# Altium footprint library 0201_C.PcbLib: 1 footprints
Each footprint in its own frame and in the unit in brackets; x right, y up, seen from the top. Pads: shape width x height; smd on the part's side, far side on the other; paste and mask are expansions set on the pad; w line width, h text height; cw(c..) or ccw(c..) is an arc to the next point about the centre after c.
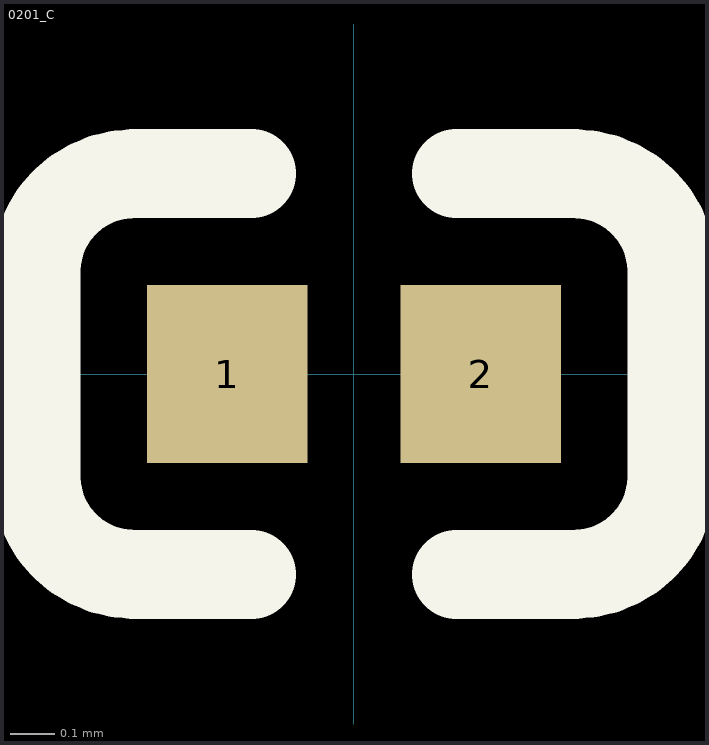
[diagram p0: the footprint, top view; thin cyan lines are the x and y axes]

## 0201_C [mm]
pads (2):
  rect 0.36x0.4 smd mask+0.051: 1(-0.285,0) 2(0.285,0)
Top Overlay:
  lines w0.2: -0.23,-0.45 -0.495,-0.45 cw(c-0.495,-0.23) -0.715,-0.23 -0.715,0.23 cw(c-0.495,0.23) -0.495,0.45 -0.23,0.45 ; 0.23,-0.45 0.495,-0.45 ccw(c0.495,-0.23) 0.715,-0.23 0.715,0.23 ccw(c0.495,0.23) 0.495,0.45 0.23,0.45
3D body: height 0.31, standoff 0, extent -0.305,-0.152 0.305,0.153